# EAGLE library part PCA9306_LSSOP (library Gucci_ControlBoard)
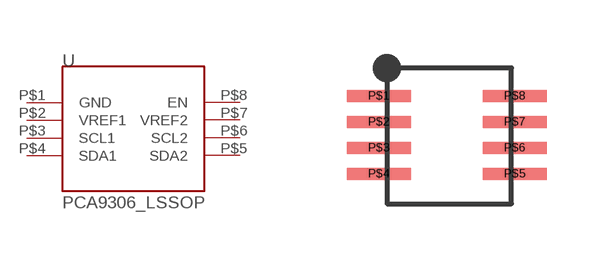
[diagram p5: symbol with the pads of 8-LSSOP; footprint 8-LSSOP]

Designator prefix -

## PCA9306_LSSOP  [8-LSSOP]
P$1  GND
P$2  VREF1
P$3  SCL1
P$4  SDA1
P$5  SDA2
P$6  SCL2
P$7  VREF2
P$8  EN

## Footprint 8-LSSOP (pad centres in mm)
smd 1.6 x 0.3: P$1 -1.7,1.3; P$2 -1.7,0.65; P$3 -1.7,0; P$4 -1.7,-0.65; P$5 1.7,-0.65; P$6 1.7,0; P$7 1.7,0.65; P$8 1.7,1.3